# Altium schematic symbol library SCH - MEMORY - MICRON TECHNOLOGY,INC. MT40A4G4SA MT40A2G8SA .SchLib: 1 symbol
Pins are listed as number, name and electrical type; pins without a type are passive.

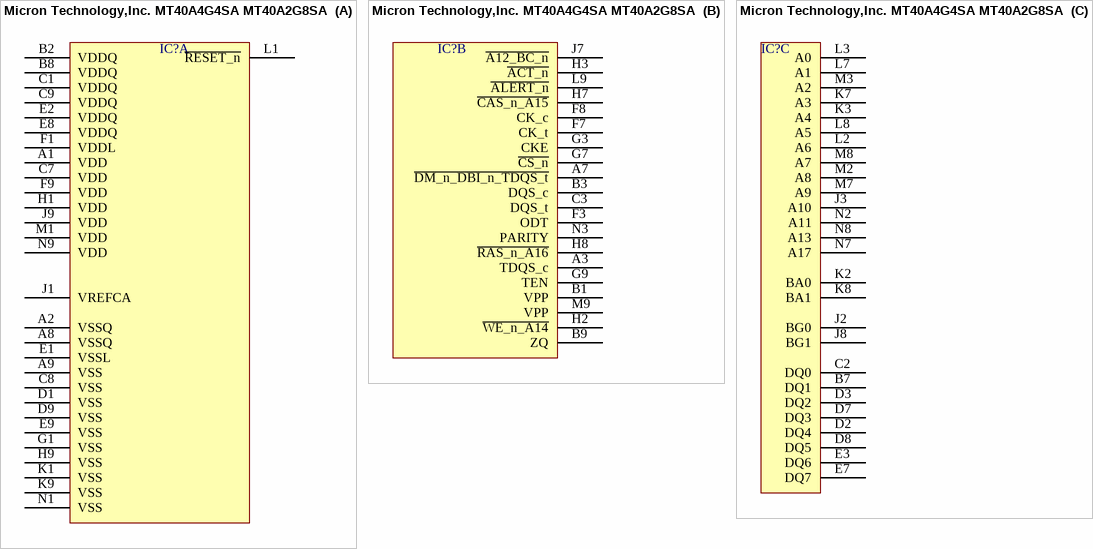
[diagram p0: symbol Micron Technology,Inc. MT40A4G4SA MT40A2G8SA ]

## Micron Technology,Inc. MT40A4G4SA MT40A2G8SA 
designator IC?  (value not drawn)
part A pins: A1 VDD, A2 VSSQ, A8 VSSQ, A9 VSS, B2 VDDQ, B8 VDDQ, C1 VDDQ, C7 VDD, C8 VSS, C9 VDDQ, D1 VSS, D9 VSS, E1 VSSL, E2 VDDQ, E8 VDDQ, E9 VSS, F1 VDDL, F9 VDD, G1 VSS, H1 VDD, H9 VSS, J1 VREFCA, J9 VDD, K1 VSS, K9 VSS, L1 ~{RESET_n}, M1 VDD, N1 VSS, N9 VDD
part B pins: A3 TDQS_c, A7 ~{DM_n_DBI_n_TDQS_t}, B1 VPP, B3 DQS_c, B9 ZQ, C3 DQS_t, F3 ODT, F7 CK_t, F8 CK_c, G3 CKE, G7 ~{CS_n}, G9 TEN, H2 ~{WE_n_A14}, H3 ~{ACT_n}, H7 ~{CAS_n_A15}, H8 ~{RAS_n_A16}, J7 ~{A12_BC_n}, L9 ~{ALERT_n}, M9 VPP, N3 PARITY
part C pins: B7 DQ1, C2 DQ0, D2 DQ4, D3 DQ2, D7 DQ3, D8 DQ5, E3 DQ6, E7 DQ7, J2 BG0, J3 A10, J8 BG1, K2 BA0, K3 A4, K7 A3, K8 BA1, L2 A6, L3 A0, L7 A1, L8 A5, M2 A8, M3 A2, M7 A9, M8 A7, N2 A11, N7 A17, N8 A13